# Altium footprint library mitoudizuo.PcbLib: 1 footprints
Each footprint in its own frame and in the unit in brackets; x right, y up, seen from the top. Pads: shape width x height; smd on the part's side, far side on the other; paste and mask are expansions set on the pad; w line width, h text height; cw(c..) or ccw(c..) is an arc to the next point about the centre after c.
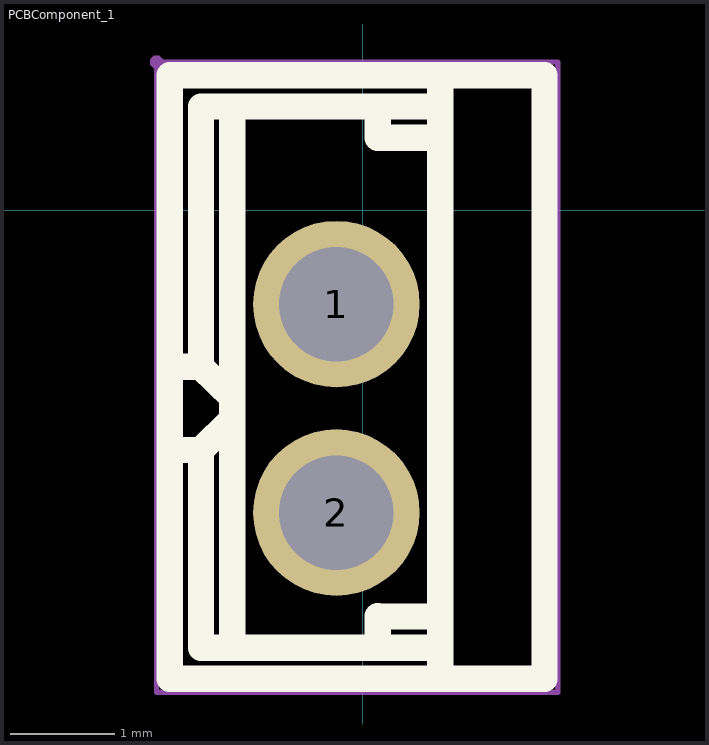
[diagram p0: the footprint, top view; thin cyan lines are the x and y axes]

## PCBComponent_1 [mm]
pads (2):
  round 1.6 hole 1.1 paste+0 mask+0.051: 1(-0.254,-0.904) 2(-0.254,-2.906)
Top Overlay:
  lines w0.254: -1.854,-4.505 -1.854,-2.305 ; -1.854,-1.505 -1.854,-2.305 ; -1.853,-4.505 1.746,-4.505 1.746,1.295 -1.854,1.295 -1.854,-1.506 -1.554,-1.506 -1.254,-1.803 -1.254,-2.007 -1.554,-2.304 -1.854,-2.305 ; -1.554,-2.305 -1.554,-4.205 0.646,-4.205 ; -1.554,-1.505 -1.554,0.995 0.646,0.995 ; -1.255,-1.806 -1.254,0.995 ; -1.254,-4.105 -1.254,-2.005 ; 0.145,-4.204 0.145,-3.904 0.746,-3.905 ; 0.145,0.694 0.746,0.695 ; 0.146,0.695 0.146,0.995 ; 0.746,-4.505 0.746,1.295
Mechanical 15:
  region: -1.981,1.482 -2.006,1.482 -2.041,1.447 -2.041,1.397 -2.006,1.362 -1.981,1.362 -1.956,1.362 -1.921,1.397 -1.921,1.447 -1.956,1.482
  region: -0.254,-0.454 -0.344,-0.454 -0.509,-0.523 -0.635,-0.649 -0.704,-0.815 -0.704,-0.994 -0.635,-1.159 -0.509,-1.286 -0.344,-1.354 -0.254,-1.354 -0.164,-1.354 0.001,-1.286 0.127,-1.159 0.196,-0.994 0.196,-0.815 0.127,-0.649 0.001,-0.523 -0.164,-0.454
  region: -0.254,-2.456 -0.344,-2.456 -0.509,-2.524 -0.635,-2.651 -0.704,-2.816 -0.704,-2.995 -0.635,-3.161 -0.509,-3.287 -0.344,-3.356 -0.254,-3.356 -0.164,-3.356 0.001,-3.287 0.127,-3.161 0.196,-2.995 0.196,-2.816 0.127,-2.651 0.001,-2.524 -0.164,-2.456
  lines w0.051: -1.981,-4.632 1.873,-4.632 1.873,1.422 -1.981,1.422 -1.981,-4.632